# EAGLE library part 5X2HEADERBOX (library vikc-connector)
5x2 Header Box Shrouded
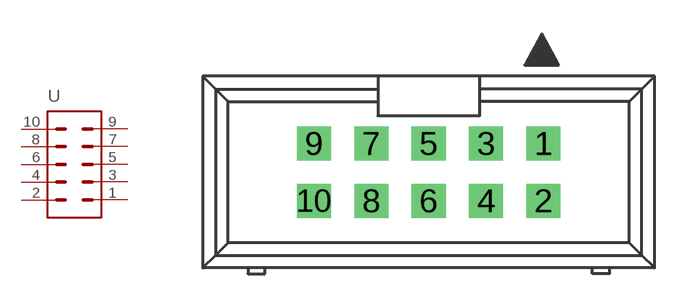
[diagram p0: symbol with the pads of 5X2SHROUDEDBOX; footprint 5X2SHROUDEDBOX]

Designator prefix -

## 5X2HEADERBOX  [5X2SHROUDEDBOX]
1  P$1
2  P$2
3  P$3
4  P$4
5  P$5
6  P$6
7  P$7
8  P$8
9  P$9
10  P$10

## Footprint 5X2SHROUDEDBOX (pad centres in mm)
drill 1 square: 1 5.08,1.27; 2 5.08,-1.27; 3 2.54,1.27; 4 2.54,-1.27; 5 0,1.27; 6 0,-1.27; 7 -2.54,1.27; 8 -2.54,-1.27; 9 -5.08,1.27; 10 -5.08,-1.27